# Altium footprint library Library v1.9.PcbLib: 90 footprints (part 2 of 6)
Each footprint in its own frame and in the unit in brackets; x right, y up, seen from the top. Pads: shape width x height; smd on the part's side, far side on the other; paste and mask are expansions set on the pad; w line width, h text height; cw(c..) or ccw(c..) is an arc to the next point about the centre after c.
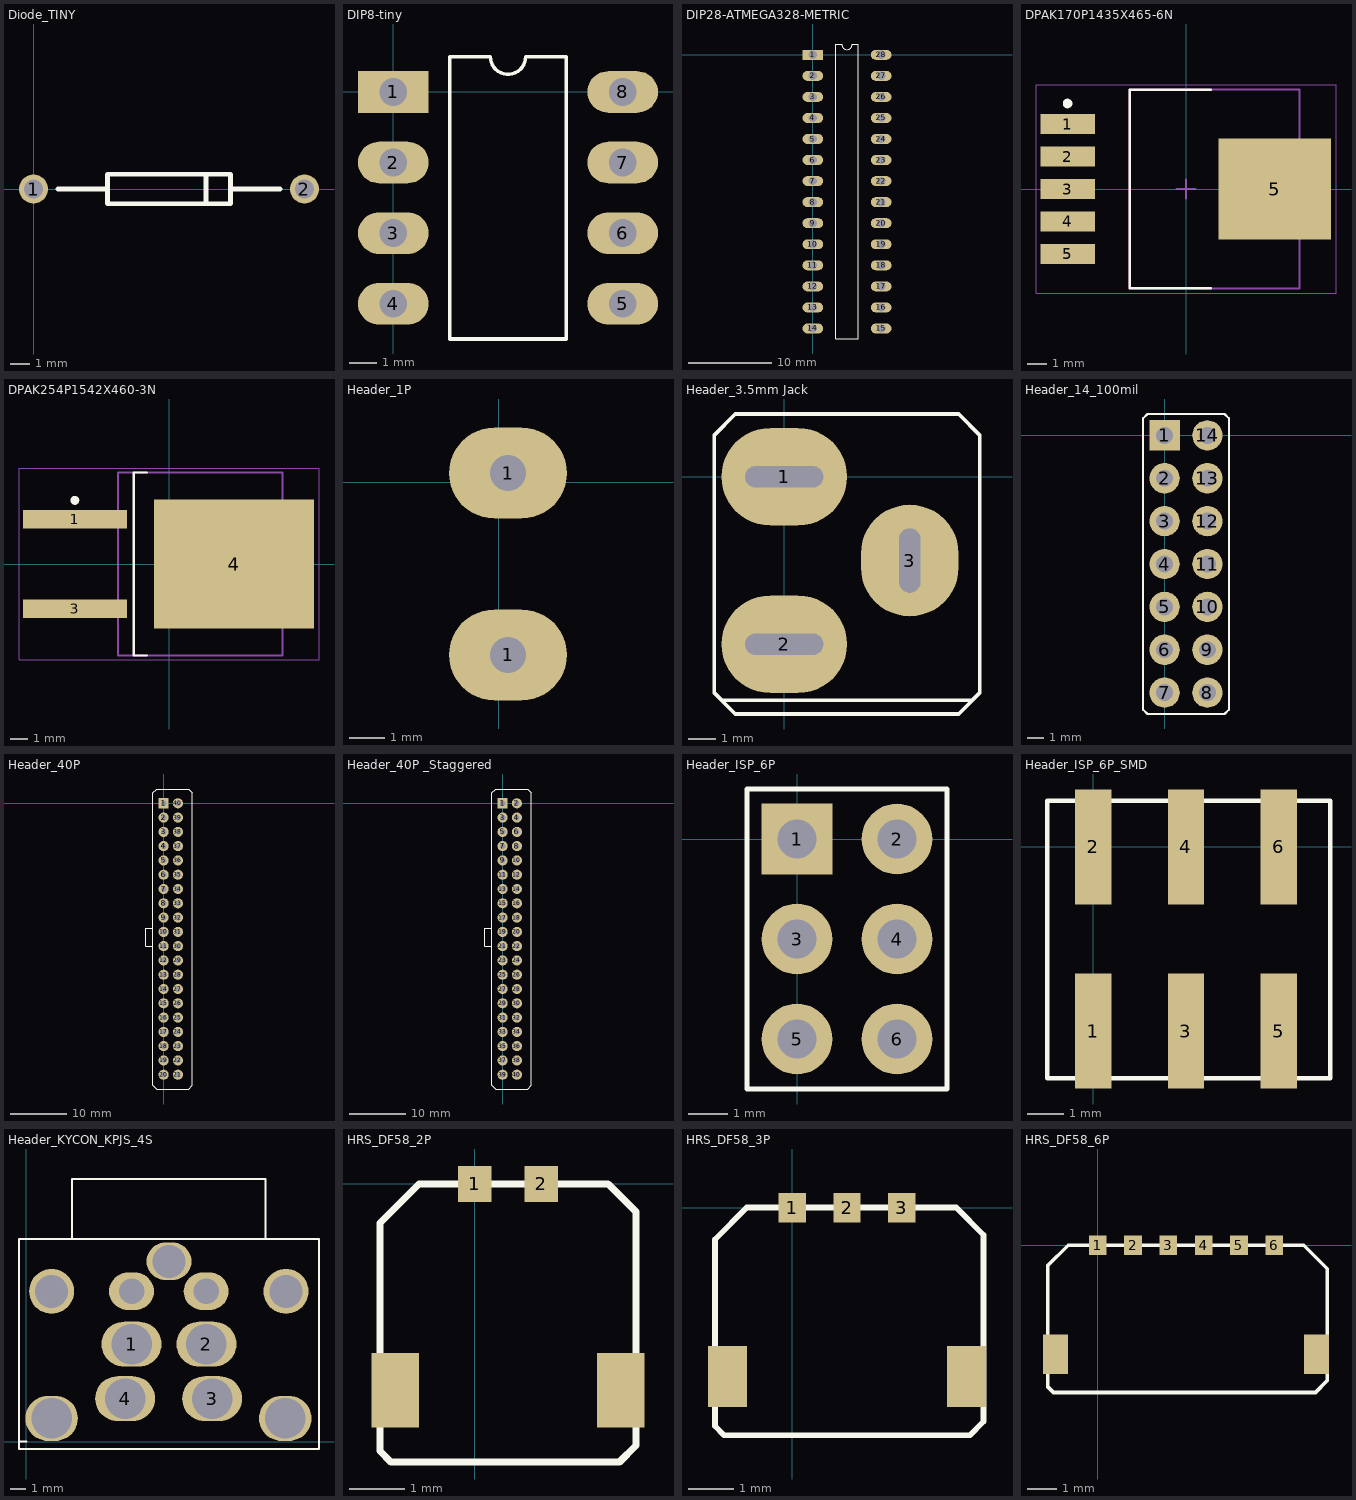
[diagram p1: the footprints below, top view; thin cyan lines are the x and y axes]

## Diode_TINY [mm]
pads (2):
  round 1.5 hole 1: 1(0,0) 2(13.97,0)
Top Overlay:
  lines w0.254: 1.27,0 3.81,0 ; 8.89,-0.762 8.89,0.762 ; 10.16,0 12.7,0 ; 3.81,0 3.81,-0.762 10.16,-0.762 10.16,0.762 3.81,0.762 3.81,0

## DIP8-tiny [mm]
pads (8):
  rect 2.54x1.5 hole 1: 1(0,0)
  oval 2.54x1.5 hole 1: 2(0,-2.54) 3(0,-5.08) 4(0,-7.62) 5(8.255,-7.62) 6(8.255,-5.08) 7(8.255,-2.54) 8(8.255,0)
Top Overlay:
  lines w0.127: 2.032,-8.89 6.223,-8.89 6.223,1.27 4.763,1.27 cw(c4.127,1.27) 3.492,1.27 2.032,1.27 2.032,-8.89

## DIP28-ATMEGA328-METRIC [mm]
pads (28):
  rect 2.5x1.2 hole 1: 1(0,0)
  oval 2.5x1.2 hole 1: 2(0,-2.54) 3(0,-5.08) 4(0,-7.62) 5(0,-10.16) 6(0,-12.7) 7(0,-15.24) 8(0,-17.78) 9(0,-20.32) 10(0,-22.86) 11(0,-25.4) 12(0,-27.94) 13(0,-30.48) 14(0,-33.02) 15(8.255,-33.02) 16(8.255,-30.48) 17(8.255,-27.94) 18(8.255,-25.4) 19(8.255,-22.86) 20(8.255,-20.32) 21(8.255,-17.78) 22(8.255,-15.24) 23(8.255,-12.7) 24(8.255,-10.16) 25(8.255,-7.62) 26(8.255,-5.08) 27(8.255,-2.54) 28(8.255,0)
Top Overlay:
  lines w0.127: 2.774,-34.29 2.774,-25.4 2.774,-7.62 2.774,1.27 3.492,1.27 ccw(c4.127,1.27) 4.763,1.27 5.481,1.27 5.481,-34.29 2.774,-34.29

## DPAK170P1435X465-6N [mm] "D2-PAK, 6-Pads, Body 7.55x8.57mm (max), IPC Medium Density"
height 4.65
pads (6):
  rect 2.85x1.05 smd: 1(-6.2,3.4) 2(-6.2,1.7) 3(-6.2,0) 4(-6.2,-1.7) 5(-6.2,-3.4)
  rect 5.9x5.3 smd: 5(4.65,0)
Top Overlay:
  circle w0.25: c-6.2,4.475 r0.125
  lines w0.127: 1.3,-5.2 -2.95,-5.2 -2.95,5.2 1.3,5.2
Mechanical 13:
  lines w0.1: -2.95,-5.2 -2.95,5.2 5.94,5.2 5.94,-5.2 -2.95,-5.2
Mechanical 15:
  lines w0.05: -7.85,-5.45 -7.85,5.45 7.85,5.45 7.85,-5.45 -7.85,-5.45
  lines w0.1: -0.5,0 0.5,0 ; 0,-0.5 0,0.5
3D body "DPAK170P1435X465-6N.step": height 4.65, standoff 0, extent -6.725,-5.2 7.625,5.2

## DPAK254P1542X460-3N [mm] "D2-PAK, 3-Pads, Body 7.78x8.56mm (max), IPC Medium Density"
height 4.6
pads (3):
  rect 5.9x1.05 smd: 1(-5.35,2.54) 3(-5.35,-2.54)
  rect 9.1x7.35 smd: 4(3.7,0)
Top Overlay:
  circle w0.25: c-5.35,3.615 r0.125
  lines w0.127: -1.25,-5.2 -2,-5.2 -2,5.2 -1.25,5.2
Mechanical 13:
  lines w0.1: -2.9,-5.2 6.45,-5.2 6.45,5.2 -2.9,5.2 -2.9,-5.2
Mechanical 15:
  lines w0.05: -8.525,-5.45 8.525,-5.45 8.525,5.45 -8.525,5.45 -8.525,-5.45
  lines w0.1: -0.5,0 0.5,0 ; 0,-0.5 0,0.5
3D body "DPAK254P1542X460-3N.step": height 4.63, standoff 0, extent -7.29,-5.2 8.135,5.2

## Header_1P [mil]
pads (2):
  oval 130x100 hole 39.37: 1(10,-190) 1(10,10)

## Header_3.5mm Jack [mm]
pads (3):
  oval 4.5x3.5 hole 0.762 slot 2.8 at 0 deg: 1(0,0) 2(0,-6)
  oval 3.5x4 hole 2.3 slot 0.762 at 0 deg: 3(4.5,-3)
Top Overlay:
  lines w0.127: -2.25,-8 6.75,-8 ; -1.75,2.25 6.25,2.25 7,1.5 7,-7.75 6.25,-8.5 -1.75,-8.5 -2.5,-7.75 -2.5,1.5 -1.75,2.25 ; -1.75,2.25 -1.75,2.25

## Header_14_100mil [mm]
pads (14):
  rect 1.8x1.8 hole 1: 1(0,0)
  round 1.8 hole 1: 2(0,-2.54) 3(0,-5.08) 4(0,-7.62) 5(0,-10.16) 6(0,-12.7) 7(0,-15.24) 8(2.54,-15.24) 9(2.54,-12.7) 10(2.54,-10.16) 11(2.54,-7.62) 12(2.54,-5.08) 13(2.54,-2.54) 14(2.54,0)
Top Overlay:
  lines w0.127: -1.27,-16.256 -1.016,-16.51 3.556,-16.51 3.81,-16.256 3.81,1.016 3.556,1.27 -1.016,1.27 -1.27,1.016 -1.27,-16.256

## Header_40P [mm]
pads (40):
  rect 1.8x1.8 hole 1: 1(0,0)
  round 1.8 hole 1: 2(0,-2.54) 3(0,-5.08) 4(0,-7.62) 5(0,-10.16) 6(0,-12.7) 7(0,-15.24) 8(0,-17.78) 9(0,-20.32) 10(0,-22.86) 11(0,-25.4) 12(0,-27.94) 13(0,-30.48) 14(0,-33.02) 15(0,-35.56) 16(0,-38.1) 17(0,-40.64) 18(0,-43.18) 19(0,-45.72) 20(0,-48.26) 21(2.54,-48.26) 22(2.54,-45.72) 23(2.54,-43.18) 24(2.54,-40.64) 25(2.54,-38.1) 26(2.54,-35.56) 27(2.54,-33.02) 28(2.54,-30.48) 29(2.54,-27.94) 30(2.54,-25.4) 31(2.54,-22.86) 32(2.54,-20.32) 33(2.54,-17.78) 34(2.54,-15.24) 35(2.54,-12.7) 36(2.54,-10.16) 37(2.54,-7.62) 38(2.54,-5.08) 39(2.54,-2.54) 40(2.54,0)
Top Overlay:
  lines w0.127: -1.905,-25.4 -3.175,-25.4 -3.175,-22.225 -1.905,-22.225 ; -1.905,-50.165 -1.27,-50.8 4.445,-50.8 5.08,-50.165 5.08,1.905 4.445,2.54 -1.27,2.54 -1.905,1.905 -1.905,-50.165

## Header_40P _Staggered [mm]
pads (40):
  rect 1.8x1.8 hole 1: 1(0,0)
  round 1.8 hole 1: 2(2.54,0) 3(0,-2.54) 4(2.54,-2.54) 5(0,-5.08) 6(2.54,-5.08) 7(0,-7.62) 8(2.54,-7.62) 9(0,-10.16) 10(2.54,-10.16) 11(0,-12.7) 12(2.54,-12.7) 13(0,-15.24) 14(2.54,-15.24) 15(0,-17.78) 16(2.54,-17.78) 17(0,-20.32) 18(2.54,-20.32) 19(0,-22.86) 20(2.54,-22.86) 21(0,-25.4) 22(2.54,-25.4) 23(0,-27.94) 24(2.54,-27.94) 25(0,-30.48) 26(2.54,-30.48) 27(0,-33.02) 28(2.54,-33.02) 29(0,-35.56) 30(2.54,-35.56) 31(0,-38.1) 32(2.54,-38.1) 33(0,-40.64) 34(2.54,-40.64) 35(0,-43.18) 36(2.54,-43.18) 37(0,-45.72) 38(2.54,-45.72) 39(0,-48.26) 40(2.54,-48.26)
Top Overlay:
  lines w0.127: -1.905,-25.4 -3.175,-25.4 -3.175,-22.225 -1.905,-22.225 ; -1.905,-50.165 -1.905,1.905 -1.27,2.54 4.445,2.54 5.08,1.905 5.08,-50.165 4.445,-50.8 -1.27,-50.8 -1.905,-50.165

## Header_ISP_6P [mm]
pads (6):
  rect 1.8x1.8 hole 1: 1(0,0)
  round 1.8 hole 1: 2(2.54,0) 3(0,-2.54) 4(2.54,-2.54) 5(0,-5.08) 6(2.54,-5.08)
Top Overlay:
  lines w0.127: -1.27,-6.35 -1.27,1.27 3.81,1.27 3.81,-6.35 -1.27,-6.35

## Header_ISP_6P_SMD [mm]
pads (6):
  rect 1x3.15 smd: 1(0,-5.05) 2(0,0) 3(2.54,-5.05) 4(2.54,0) 5(5.08,-5.05) 6(5.08,0)
Top Overlay:
  lines w0.127: -1.27,-6.35 -1.27,1.27 3.81,1.27 6.5,1.27 6.5,-6.35 3.81,-6.35 -1.27,-6.35

## Header_KYCON_KPJS_4S [mm]
height 15
pads (11):
  oval 4x3 hole 2.7: 1(7,6.5) 2(12,6.5) 3(12.375,2.875) 4(6.575,2.875)
  oval 3.5x3 hole 2.7: ""(1.675,1.55) ""(17.25,1.55)
  round 3 hole 2.2: ""(1.675,10.025) ""(17.3,10.025)
  oval 3x2.5 hole 1.7: ""(7,10.025) ""(11.975,10.025)
  oval 3x2.5 hole 2.2: ""(9.5,12.025)
Top Overlay:
  lines w0.127: 0,0 -0.5,0 ; 3.029,13.537 3.029,17.525 15.931,17.525 15.931,13.52 ; -0.5,0 -0.5,13.5 0,13.5 19,13.5 19.5,13.5 19.5,-0.5 -0.5,-0.5 -0.5,0

## HRS_DF58_2P [mm]
height 0.95
pads (4):
  rect 0.6x0.65 smd: 1(0,0) 2(1.2,0)
  rect 0.85x1.34 smd: ""(-1.425,-3.705) ""(2.625,-3.705)
Top Overlay:
  lines w0.127: -1.7,-4.8 -1.7,-0.7 -1,0 2.4,0 2.9,-0.5 2.9,-4.7 2.6,-5 -1.5,-5 -1.7,-4.8

## HRS_DF58_3P [mm]
height 0.95
pads (5):
  rect 0.6x0.65 smd: 1(0,0) 2(1.2,0) 3(2.4,0)
  rect 0.85x1.34 smd: ""(-1.425,-3.705) ""(3.825,-3.705)
Top Overlay:
  lines w0.127: -1.7,-4.8 -1.7,-0.7 -1,0 2.4,0 3.6,0 4.2,-0.6 4.2,-0.7 4.2,-1 4.2,-4.7 3.9,-5 -1.5,-5 -1.7,-4.8

## HRS_DF58_6P [mm]
height 0.95
pads (8):
  rect 0.6x0.65 smd: 1(0,0) 2(1.2,0) 3(2.4,0) 4(3.6,0) 5(4.8,0) 6(6,0)
  rect 0.85x1.34 smd: ""(-1.425,-3.705) ""(7.425,-3.705)
Top Overlay:
  lines w0.127: -1.7,-4.8 -1.5,-5 3.9,-5 7.4,-5 7.8,-4.6 7.8,-0.8 7,0 -1,0 -1.7,-0.7 -1.7,-4.8